# Altium schematic symbol library MQ137.SchLib: 1 symbol
Pins are listed as number, name and electrical type; pins without a type are passive.

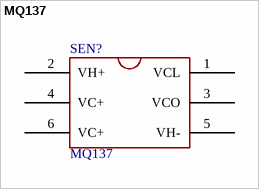
[diagram p0: symbol MQ137]

## MQ137
designator SEN?
Ammonia Sensor
footprint MQ137
pins: 1 VCL, 2 VH+, 3 VCO, 4 VC+, 5 VH-, 6 VC+